# Altium footprint library SOP-8.PcbLib: 1 footprints
Each footprint in its own frame and in the unit in brackets; x right, y up, seen from the top. Pads: shape width x height; smd on the part's side, far side on the other; paste and mask are expansions set on the pad; w line width, h text height; cw(c..) or ccw(c..) is an arc to the next point about the centre after c.
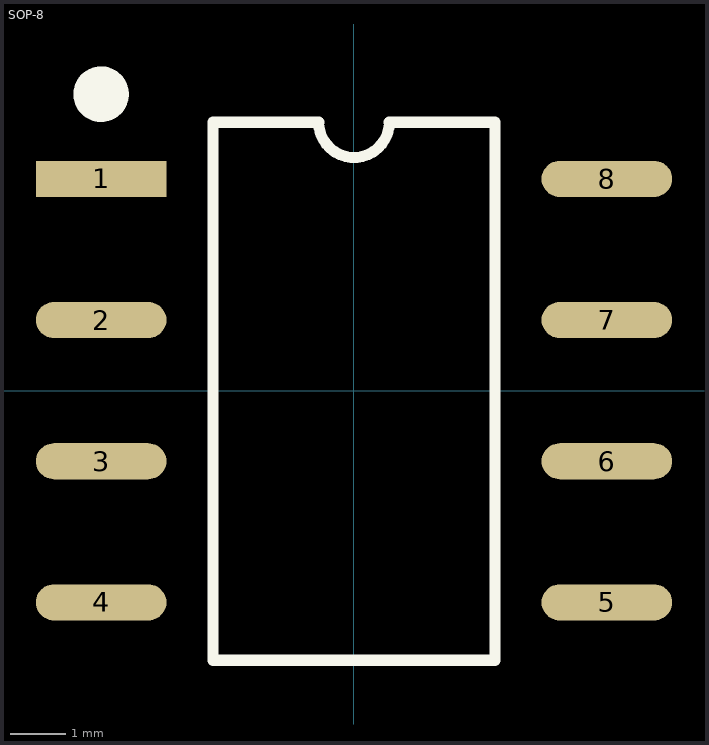
[diagram p0: the footprint, top view; thin cyan lines are the x and y axes]

## SOP-8 [mm]
pads (8):
  rect 2.35x0.65 smd: 1(-4.55,3.81)
  oval 2.35x0.65 smd: 2(-4.55,1.27) 3(-4.55,-1.27) 4(-4.55,-3.81) 5(4.55,-3.81) 6(4.55,-1.27) 7(4.55,1.27) 8(4.55,3.81)
Top Overlay:
  circle w0.5: c-4.55,5.334 r0.25
  lines w0.2: -2.54,-4.85 -2.54,4.83 -0.635,4.83 ccw(c0,4.83) 0.635,4.83 2.54,4.83 2.54,-4.85 -2.54,-4.85
3D body: height 4, standoff 0, extent -3.3,-4.75 3.3,4.75